# EAGLE library part PCM1808 (library PCM v7)
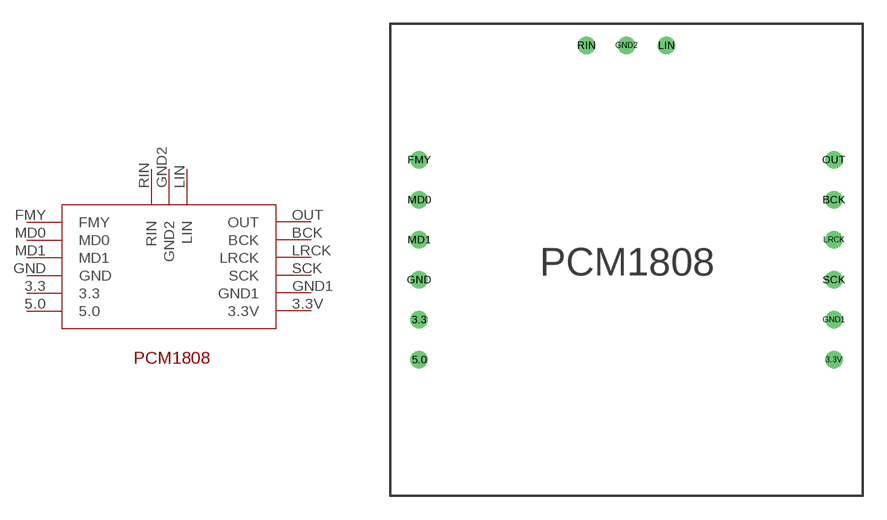
[diagram p0: symbol with the pads of ADC; footprint ADC]

Designator prefix PCM

## PCM1808  [ADC]
3.3  3.3
3.3V  3.3V
5.0  5.0
BCK  BCK
FMY  FMY
GND  GND
GND1  GND1
GND2  GND2
LIN  LIN
LRCK  LRCK
MD0  MD0
MD1  MD1
OUT  OUT
RIN  RIN
SCK  SCK

## Footprint ADC (pad centres in mm)
drill 0.6: 3.3 -13.16,-3.81; 3.3V 13.16,-6.35; 5.0 -13.16,-6.35; BCK 13.16,3.81; FMY -13.16,6.35; GND -13.16,-1.27; GND1 13.16,-3.81; GND2 0,13.62; LIN 2.54,13.62; LRCK 13.16,1.27; MD0 -13.16,3.81; MD1 -13.16,1.27; OUT 13.16,6.35; RIN -2.54,13.62; SCK 13.16,-1.27